# Altium footprint library con-jae.PCBLIB: 3 footprints
Each footprint in its own frame and in the unit in brackets; x right, y up, seen from the top. Pads: shape width x height; smd on the part's side, far side on the other; paste and mask are expansions set on the pad; w line width, h text height; cw(c..) or ccw(c..) is an arc to the next point about the centre after c.
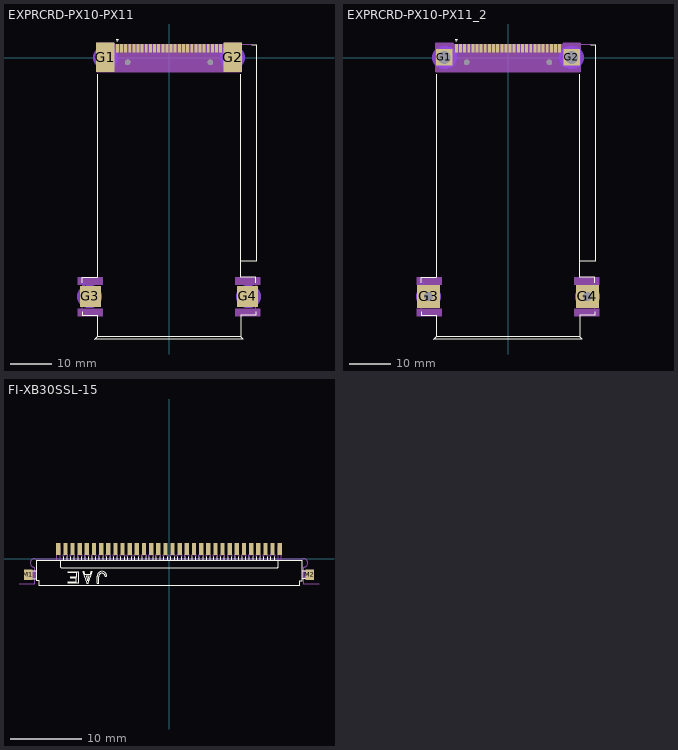
[diagram p0: the footprints below, top view; thin cyan lines are the x and y axes]

## EXPRCRD-PX10-PX11 [mm]
pads (32):
  rect 0.7x2 smd: 1(-12.5,2.25) 2(-11.5,2.25) 3(-10.5,2.25) 4(-9.5,2.25) 5(-8.5,2.25) 6(-7.5,2.25) 7(-6.5,2.25) 8(-5.5,2.25) 9(-4.5,2.25) 10(-3.5,2.25) 11(-2.5,2.25) 12(-1.5,2.25) 13(-0.5,2.25) 14(0.5,2.25) 15(1.5,2.25) 16(2.5,2.25) 17(3.5,2.25) 18(4.5,2.25) 19(5.5,2.25) 20(6.5,2.25) 21(7.5,2.25) 22(8.5,2.25) 23(9.5,2.25) 24(10.5,2.25) 25(11.5,2.25) 26(12.5,2.25)
  round 1.3 hole 1.3: 1(-10,-1.15) 1(10,-1.15)
  rect 4.55x7.2 smd: G1(-15.45,0.05) G2(15.45,0.05)
  rect 5.15x5 smd: G3(-19.025,-57.85) G4(19.025,-57.85)
Top Layer keep-out:
  lines w0.3: -21.225,-54.9 cw(c-20.75,-55.185) -20.275,-54.9
Bottom Layer keep-out:
  lines w0.3: -21.225,-54.9 cw(c-20.75,-55.185) -20.275,-54.9
  lines w5.5: -19.5,-57.875 -19,-57.875 ; -15.6,0 -14.95,0 ; 14.95,0 15.6,0 ; 19,-57.875 19.5,-57.875
Top Overlay:
  lines w0.127: -21,-61.5 -21,-62.45 -17.4,-62.45 -17.4,-67.55 ; -21,-54.5 -21,-53.25 -17.4,-53.25 -17.4,-4 ; 17.4,-4 17.4,-49.15 ; 20,3.15 21.3,3.15 21.3,-49.15 17.4,-49.15 ; 21,-61.5 21,-62.45 17.4,-62.45 17.4,-67.55 ; 21,-54.5 21,-53.25 17.4,-53.25 17.4,-49.15 ; -17.4,-67.55 -18,-68.15 18,-68.15 17.4,-67.55 ; -17.4,-67.55 17.4,-67.55 ; -12.7,4.5 -12.3,4.5 -12.5,4 -12.7,4.5
Mechanical 11:
  lines w0.7: -20.75,-55.725 -20.75,-55.225
  lines w2.25: -19.5,-57.875 -19,-57.875 ; 19,-57.875 19.5,-57.875
  lines w3.1: -15.575,0 -14.975,0 ; 14.975,0 15.575,0
Mechanical 16:
  rectangle: -0.8,1.7 -0.2,3.2
  rectangle: 0.2,1.7 0.8,3.2
  rectangle: 1.2,1.7 1.8,3.2
  rectangle: 2.2,1.7 2.8,3.2
  rectangle: 3.2,1.7 3.8,3.2
  rectangle: 4.2,1.7 4.8,3.2
  rectangle: 5.2,1.7 5.8,3.2
  rectangle: 6.2,1.7 6.8,3.2
  rectangle: 7.2,1.7 7.8,3.2
  rectangle: 8.2,1.7 8.8,3.2
  rectangle: 9.2,1.7 9.8,3.2
  rectangle: 10.2,1.7 10.8,3.2
  rectangle: 11.2,1.7 11.8,3.2
  rectangle: 12.2,1.7 12.8,3.2
  rectangle: -1.8,1.7 -1.2,3.2
  rectangle: -2.8,1.7 -2.2,3.2
  rectangle: -3.8,1.7 -3.2,3.2
  rectangle: -4.8,1.7 -4.2,3.2
  rectangle: -5.8,1.7 -5.2,3.2
  rectangle: -6.8,1.7 -6.2,3.2
  rectangle: -7.8,1.7 -7.2,3.2
  rectangle: -8.8,1.7 -8.2,3.2
  rectangle: -9.8,1.7 -9.2,3.2
  rectangle: -10.8,1.7 -10.2,3.2
  rectangle: -11.8,1.7 -11.2,3.2
  rectangle: -12.8,1.7 -12.2,3.2
  lines w0.127: -21,-61.5 -21,-60.35 ; -21,-54.8 -21,-54.5 ; -13.3,3.15 -12.95,3.15 ; 12.95,3.15 13.3,3.15 ; 17.5,3.15 20,3.15 ; 21,-61.5 21,-60.35 ; 21,-55.35 21,-54.5
  lines w0.203: -13.3,-3.35 -13.3,3.15 -13.3,3.45 ; 13.3,-3.35 13.3,3.15 13.3,3.45
  lines w0.406: -21.4,-55.55 -21.4,-60.15 -16.65,-60.15 -16.65,-55.55 -20.1,-55.55 ; -13.4,-3.35 -17.5,-3.35 -17.5,3.45 -13.4,3.45 ; 13.4,-3.35 17.5,-3.35 17.5,3.15 17.5,3.45 13.4,3.45 ; 16.65,-60.15 16.65,-55.55 21.4,-55.55 21.4,-60.15 16.65,-60.15
  text "26" at 11.25,-0.5 h1.57
  text "1" at -12.75,-0.5 h1.57
Via Holes:
  circle w0: c-19.25,-57.85 r2.25
  circle w0: c19.25,-57.85 r2.25
  circle w0: c-15.6,0 r2.25
  circle w0: c-14.95,0 r2.25
  circle w0: c15.6,0 r2.25
  circle w0: c14.95,0 r2.25
Mechanical 27:
  rectangle: -17.526,-3.556 17.272,3.302
  rectangle: -22.098,-55.118 -16.002,-53.086
  rectangle: -22.098,-62.738 -16.002,-60.706
  rectangle: 16.002,-55.118 22.098,-53.086
  rectangle: 16.002,-62.738 22.098,-60.706
Mechanical 28:
  circle w0: c-19.25,-57.85 r2.25
  circle w0: c19.25,-57.85 r2.25
  circle w0: c-15.6,0 r2.25
  circle w0: c-14.95,0 r2.25
  circle w0: c15.6,0 r2.25
  circle w0: c14.95,0 r2.25

## EXPRCRD-PX10-PX11_2 [mm]
pads (32):
  rect 0.7x2 smd: 1(-12.5,2.25) 2(-11.5,2.25) 3(-10.5,2.25) 4(-9.5,2.25) 5(-8.5,2.25) 6(-7.5,2.25) 7(-6.5,2.25) 8(-5.5,2.25) 9(-4.5,2.25) 10(-3.5,2.25) 11(-2.5,2.25) 12(-1.5,2.25) 13(-0.5,2.25) 14(0.5,2.25) 15(1.5,2.25) 16(2.5,2.25) 17(3.5,2.25) 18(4.5,2.25) 19(5.5,2.25) 20(6.5,2.25) 21(7.5,2.25) 22(8.5,2.25) 23(9.5,2.25) 24(10.5,2.25) 25(11.5,2.25) 26(12.5,2.25)
  round 1.3 hole 1.3: 1(-10,-1.15) 1(10,-1.15)
  rect 4x4 hole 3.1: G1(-15.45,0.05) G2(15.45,0.05)
  rect 5.5x5.5 hole 2.2: G3(-19.25,-57.85) G4(19.25,-57.85)
Top Layer keep-out:
  lines w0.3: -21.225,-54.9 cw(c-20.75,-55.185) -20.275,-54.9
Bottom Layer keep-out:
  lines w0.3: -21.225,-54.9 cw(c-20.75,-55.185) -20.275,-54.9
  lines w5.5: -19.5,-57.875 -19,-57.875 ; -15.6,0 -14.95,0 ; 14.95,0 15.6,0 ; 19,-57.875 19.5,-57.875
Top Overlay:
  lines w0.127: -21,-61.5 -21,-62.45 -17.4,-62.45 -17.4,-67.55 ; -21,-54.5 -21,-53.25 -17.4,-53.25 -17.4,-4 ; 17.4,-4 17.4,-49.15 ; 20,3.15 21.3,3.15 21.3,-49.15 17.4,-49.15 ; 21,-61.5 21,-62.45 17.4,-62.45 17.4,-67.55 ; 21,-54.5 21,-53.25 17.4,-53.25 17.4,-49.15 ; -17.4,-67.55 -18,-68.15 18,-68.15 17.4,-67.55 ; -17.4,-67.55 17.4,-67.55 ; -12.7,4.5 -12.3,4.5 -12.5,4 -12.7,4.5
Mechanical 11:
  lines w0.7: -20.75,-55.725 -20.75,-55.225
  lines w2.25: -19.5,-57.875 -19,-57.875 ; 19,-57.875 19.5,-57.875
  lines w3.1: -15.575,0 -14.975,0 ; 14.975,0 15.575,0
Mechanical 16:
  rectangle: -0.8,1.7 -0.2,3.2
  rectangle: 0.2,1.7 0.8,3.2
  rectangle: 1.2,1.7 1.8,3.2
  rectangle: 2.2,1.7 2.8,3.2
  rectangle: 3.2,1.7 3.8,3.2
  rectangle: 4.2,1.7 4.8,3.2
  rectangle: 5.2,1.7 5.8,3.2
  rectangle: 6.2,1.7 6.8,3.2
  rectangle: 7.2,1.7 7.8,3.2
  rectangle: 8.2,1.7 8.8,3.2
  rectangle: 9.2,1.7 9.8,3.2
  rectangle: 10.2,1.7 10.8,3.2
  rectangle: 11.2,1.7 11.8,3.2
  rectangle: 12.2,1.7 12.8,3.2
  rectangle: -1.8,1.7 -1.2,3.2
  rectangle: -2.8,1.7 -2.2,3.2
  rectangle: -3.8,1.7 -3.2,3.2
  rectangle: -4.8,1.7 -4.2,3.2
  rectangle: -5.8,1.7 -5.2,3.2
  rectangle: -6.8,1.7 -6.2,3.2
  rectangle: -7.8,1.7 -7.2,3.2
  rectangle: -8.8,1.7 -8.2,3.2
  rectangle: -9.8,1.7 -9.2,3.2
  rectangle: -10.8,1.7 -10.2,3.2
  rectangle: -11.8,1.7 -11.2,3.2
  rectangle: -12.8,1.7 -12.2,3.2
  lines w0.127: -21,-61.5 -21,-60.35 ; -21,-54.8 -21,-54.5 ; -13.3,3.15 -12.95,3.15 ; 12.95,3.15 13.3,3.15 ; 17.5,3.15 20,3.15 ; 21,-61.5 21,-60.35 ; 21,-55.35 21,-54.5
  lines w0.203: -13.3,-3.35 -13.3,3.15 -13.3,3.45 ; 13.3,-3.35 13.3,3.15 13.3,3.45
  lines w0.406: -21.4,-55.55 -21.4,-60.15 -16.65,-60.15 -16.65,-55.55 -20.1,-55.55 ; -13.4,-3.35 -17.5,-3.35 -17.5,3.45 -13.4,3.45 ; 13.4,-3.35 17.5,-3.35 17.5,3.15 17.5,3.45 13.4,3.45 ; 16.65,-60.15 16.65,-55.55 21.4,-55.55 21.4,-60.15 16.65,-60.15
  text "26" at 11.25,-0.5 h1.57
  text "1" at -12.75,-0.5 h1.57
Mechanical 27:
  rectangle: -17.526,-3.556 17.272,3.302
  rectangle: -22.098,-55.118 -16.002,-53.086
  rectangle: -22.098,-62.738 -16.002,-60.706
  rectangle: 16.002,-55.118 22.098,-53.086
  rectangle: 16.002,-62.738 22.098,-60.706

## FI-XB30SSL-15 [mm]
pads (34):
  rect 0.6x1.7 smd: 1(-15.5,1.35) 2(-14.5,1.35) 3(-13.5,1.35) 4(-12.5,1.35) 5(-11.5,1.35) 6(-10.5,1.35) 7(-9.5,1.35) 8(-8.5,1.35) 9(-7.5,1.35) 10(-6.5,1.35) 11(-5.5,1.35) 12(-4.5,1.35) 13(-3.5,1.35) 14(-2.5,1.35) 15(-1.5,1.35) 16(-0.5,1.35) 17(0.5,1.35) 18(1.5,1.35) 19(2.5,1.35) 20(3.5,1.35) 21(4.5,1.35) 22(5.5,1.35) 23(6.5,1.35) 24(7.5,1.35) 25(8.5,1.35) 26(9.5,1.35) 27(10.5,1.35) 28(11.5,1.35) 29(12.5,1.35) 30(13.5,1.35) 31(14.5,1.35) 32(15.5,1.35)
  rect 1.2x1.5 smd: M1(-19.725,-2.25) M2(19.725,-2.25)
Top Overlay:
  lines w0.102: -15.209,-0.353 -15.209,-1.094 ccw(c-15.032,-1.094) -15.032,-1.27 15.138,-1.27 ccw(c15.138,-1.129) 15.279,-1.129 15.279,-0.353 ; -14.75,-0.282 -14.75,0.247 ; -14.291,-0.282 -14.291,0.247 ; -13.762,-0.282 -13.762,0.247 ; -13.303,-0.282 -13.303,0.247 ; -12.738,-0.282 -12.738,0.247 ; -12.28,-0.282 -12.28,0.247 ; -11.75,-0.282 -11.75,0.247 ; -11.291,-0.282 -11.291,0.247 ; -10.762,-0.282 -10.762,0.247 ; -10.303,-0.282 -10.303,0.247 ; -9.738,-0.282 -9.738,0.247 ; -9.28,-0.282 -9.28,0.247 ; -8.751,-2.47 -8.928,-2.47 ccw(c-9.385,-2.506) -9.845,-2.505 -9.845,-3.423 -10.057,-3.423 -10.057,-2.47 cw(c-9.386,-2.47) -8.716,-2.47 ; -8.75,-0.282 -8.75,0.247 ; -8.291,-0.282 -8.291,0.247 ; -7.761,-0.282 -7.761,0.247 ; -7.303,-0.282 -7.303,0.247 ; -6.738,-0.282 -6.738,0.247 ; -6.28,-0.282 -6.28,0.247 ; -5.75,-0.282 -5.75,0.247 ; -5.291,-0.282 -5.291,0.247 ; -4.761,-0.282 -4.761,0.247 ; -4.303,-0.282 -4.303,0.247 ; -3.738,-0.282 -3.738,0.247 ; -3.28,-0.282 -3.28,0.247 ; -2.75,-0.282 -2.75,0.247 ; -2.291,-0.282 -2.291,0.247 ; -1.761,-0.282 -1.761,0.247 ; -1.303,-0.282 -1.303,0.247 ; -0.738,-0.282 -0.738,0.247 ; -0.28,-0.282 -0.28,0.247 ; 0.25,-0.282 0.25,0.247 ; 0.709,-0.282 0.709,0.247 ; 1.239,-0.282 1.239,0.247 ; 1.697,-0.282 1.697,0.247 ; 2.262,-0.282 2.262,0.247 ; 2.72,-0.282 2.72,0.247 ; 3.25,-0.282 3.25,0.247 ; 3.709,-0.282 3.709,0.247 ; 4.238,-0.282 4.238,0.247 ; 4.697,-0.282 4.697,0.247 ; 5.262,-0.282 5.262,0.247 ; 5.72,-0.282 5.72,0.247 ; 6.25,-0.282 6.25,0.247 ; 6.709,-0.282 6.709,0.247 ; 7.238,-0.282 7.238,0.247 ; 7.697,-0.282 7.697,0.247 ; 8.262,-0.282 8.262,0.247 ; 8.72,-0.282 8.72,0.247 ; 9.25,-0.282 9.25,0.247 ; 9.709,-0.282 9.709,0.247 ; 10.238,-0.282 10.238,0.247 ; 10.697,-0.282 10.697,0.247 ; 11.262,-0.282 11.262,0.247 ; 11.72,-0.282 11.72,0.247 ; 12.262,-0.282 12.262,0.247 ; 12.72,-0.282 12.72,0.247 ; 13.267,-0.282 13.267,0.247 ; 13.726,-0.282 13.726,0.247 ; 14.255,-0.282 14.255,0.247 ; 14.714,-0.282 14.714,0.247 ; 18.666,-2.787 19.972,-2.787 19.972,-1.694 18.666,-1.694 ; -18.596,-2.787 -19.937,-2.787 -19.937,-1.694 -18.596,-1.694 ; -18.596,-2.787 -18.596,-2.999 -18.243,-2.999 -18.243,-3.705 18.278,-3.705 18.278,-3.07 18.631,-3.07 18.631,-0.318 -18.596,-0.318 -18.596,-1.694 ; -18.596,-2.787 -18.596,-1.694 ; -14.079,-3.423 -12.738,-3.423 -12.738,-1.835 -14.079,-1.835 -14.079,-2.011 -12.915,-2.011 -12.915,-2.505 -13.762,-2.505 -13.762,-2.752 -12.95,-2.752 -12.95,-3.211 -14.079,-3.211 -14.079,-3.423 ; -12.068,-1.835 -11.503,-3.423 -11.292,-3.423 -10.727,-1.835 -10.939,-1.835 -11.08,-2.223 -11.715,-2.223 -11.856,-1.835 -12.068,-1.835 ; -11.609,-2.47 -11.186,-2.47 -11.397,-3.105 -11.609,-2.47
Mechanical 1:
  lines w0: -21,-3.5 -18.825,-3.5 -18.825,-1.2 cw(c-18.825,-0.6) -18.825,0 18.825,0 cw(c18.825,-0.6) 18.825,-1.2 18.825,-3.5 21,-3.5
Mechanical 16:
  drawing of 278 lines, arcs and shapes, not listed